# Altium schematic symbol library Ferrite_2Pin.Schlib: 1 symbol
Pins are listed as number, name and electrical type; pins without a type are passive.

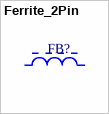
[diagram p0: symbol Ferrite_2Pin]

## Ferrite_2Pin
designator FB?
Ferrite Bead
pins: 1, 2